# EAGLE library part 788BS (library ledmatrix)
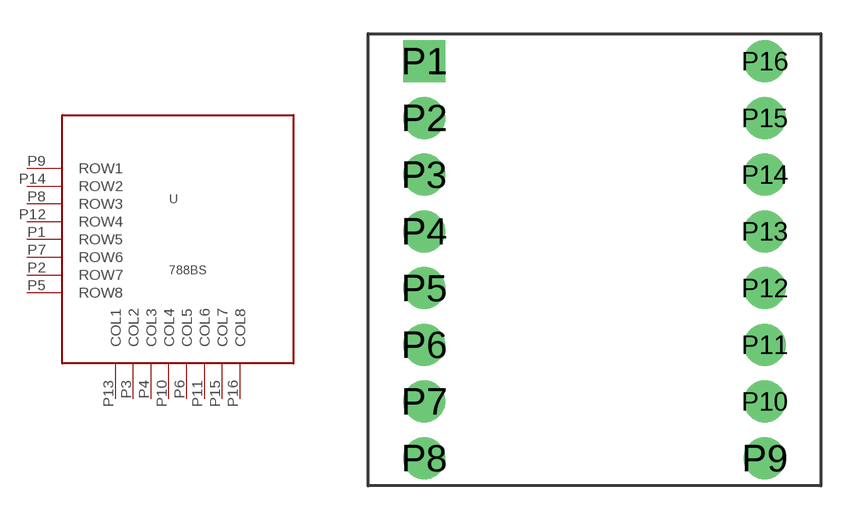
[diagram p0: symbol with the pads of 788BS8X81.9MM; footprint 788BS8X81.9MM]

Designator prefix -

## 788BS  [788BS8X81.9MM]
P1  ROW5
P2  ROW7
P3  COL2
P4  COL3
P5  ROW8
P6  COL5
P7  ROW6
P8  ROW3
P9  ROW1
P10  COL4
P11  COL6
P12  ROW4
P13  COL1
P14  ROW2
P15  COL7
P16  COL8

## Footprint 788BS8X81.9MM (pad centres in mm)
drill 1.016 pad 1.88 square: P1 0,0
drill 1.016 pad 1.88: P2 0,-2.54; P3 0,-5.08; P4 0,-7.62; P5 0,-10.16; P6 0,-12.7; P7 0,-15.24; P8 0,-17.78; P9 15.24,-17.78; P10 15.24,-15.24; P11 15.24,-12.7; P12 15.24,-10.16; P13 15.24,-7.62; P14 15.24,-5.08; P15 15.24,-2.54; P16 15.24,0